# Altium footprint library TSSOP-8_3x4.4x065P.PcbLib: 1 footprints
Each footprint in its own frame and in the unit in brackets; x right, y up, seen from the top. Pads: shape width x height; smd on the part's side, far side on the other; paste and mask are expansions set on the pad; w line width, h text height; cw(c..) or ccw(c..) is an arc to the next point about the centre after c.
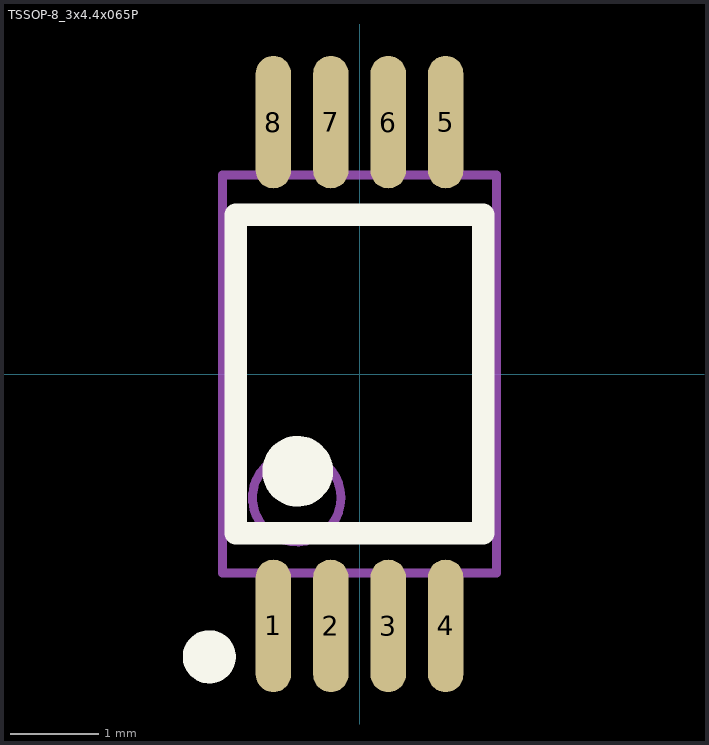
[diagram p0: the footprint, top view; thin cyan lines are the x and y axes]

## TSSOP-8_3x4.4x065P [mm]
pads (8):
  oval 0.4x1.5 smd mask+0.051: 1(-0.975,-2.85) 2(-0.325,-2.85) 3(0.325,-2.85) 4(0.975,-2.85) 5(0.975,2.85) 6(0.325,2.85) 7(-0.325,2.85) 8(-0.975,2.85)
Top Overlay:
  circle w0.3: c-1.7,-3.2 r0.15
  circle w0.4: c-0.7,-1.1 r0.2
  lines w0.254: -1.4,-1.8 1.4,-1.8 1.4,1.8 -1.4,1.8 -1.4,-1.8
Mechanical 13:
  circle w0.1: c-0.711,-1.4 r0.5
  lines w0.1: -1.55,-2.25 1.55,-2.25 1.55,2.25 -1.55,2.25 -1.55,-2.25